# EAGLE library part ATTINY (library beetle_drv)
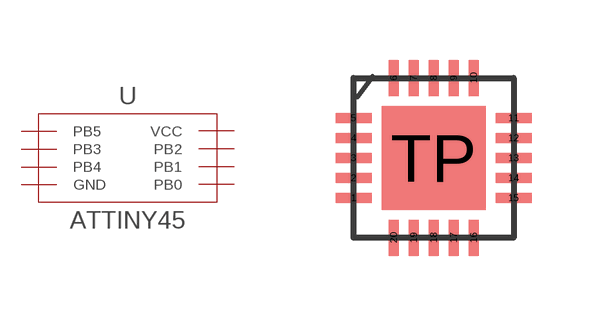
[diagram p1: symbol with the pads of 20-WQFN; footprint 20-WQFN]

Designator prefix U

## ATTINY_WQFN  [20-WQFN]
1  PB4
4  PB3
5  PB5
11  VCC
12  PB2
14  PB1
15  PB0
18  GND
TP  GND

## Footprint 20-WQFN (pad centres in mm)
smd 0.9 x 0.25: 1 -2,-1; 2 -2,-0.5; 3 -2,0; 4 -2,0.5; 5 -2,1; 11 2,1; 12 2,0.5; 13 2,0; 14 2,-0.5; 15 2,-1
smd 0.25 x 0.9: 6 -1,2; 7 -0.5,2; 8 0,2; 9 0.5,2; 10 1,2; 16 1,-2; 17 0.5,-2; 18 0,-2; 19 -0.5,-2; 20 -1,-2
smd 2.6 x 2.6: TP 0,0